# Altium integrated library Microchip Microcontroller 8-Bit PIC18.IntLib: 436 symbols (part 9 of 20)
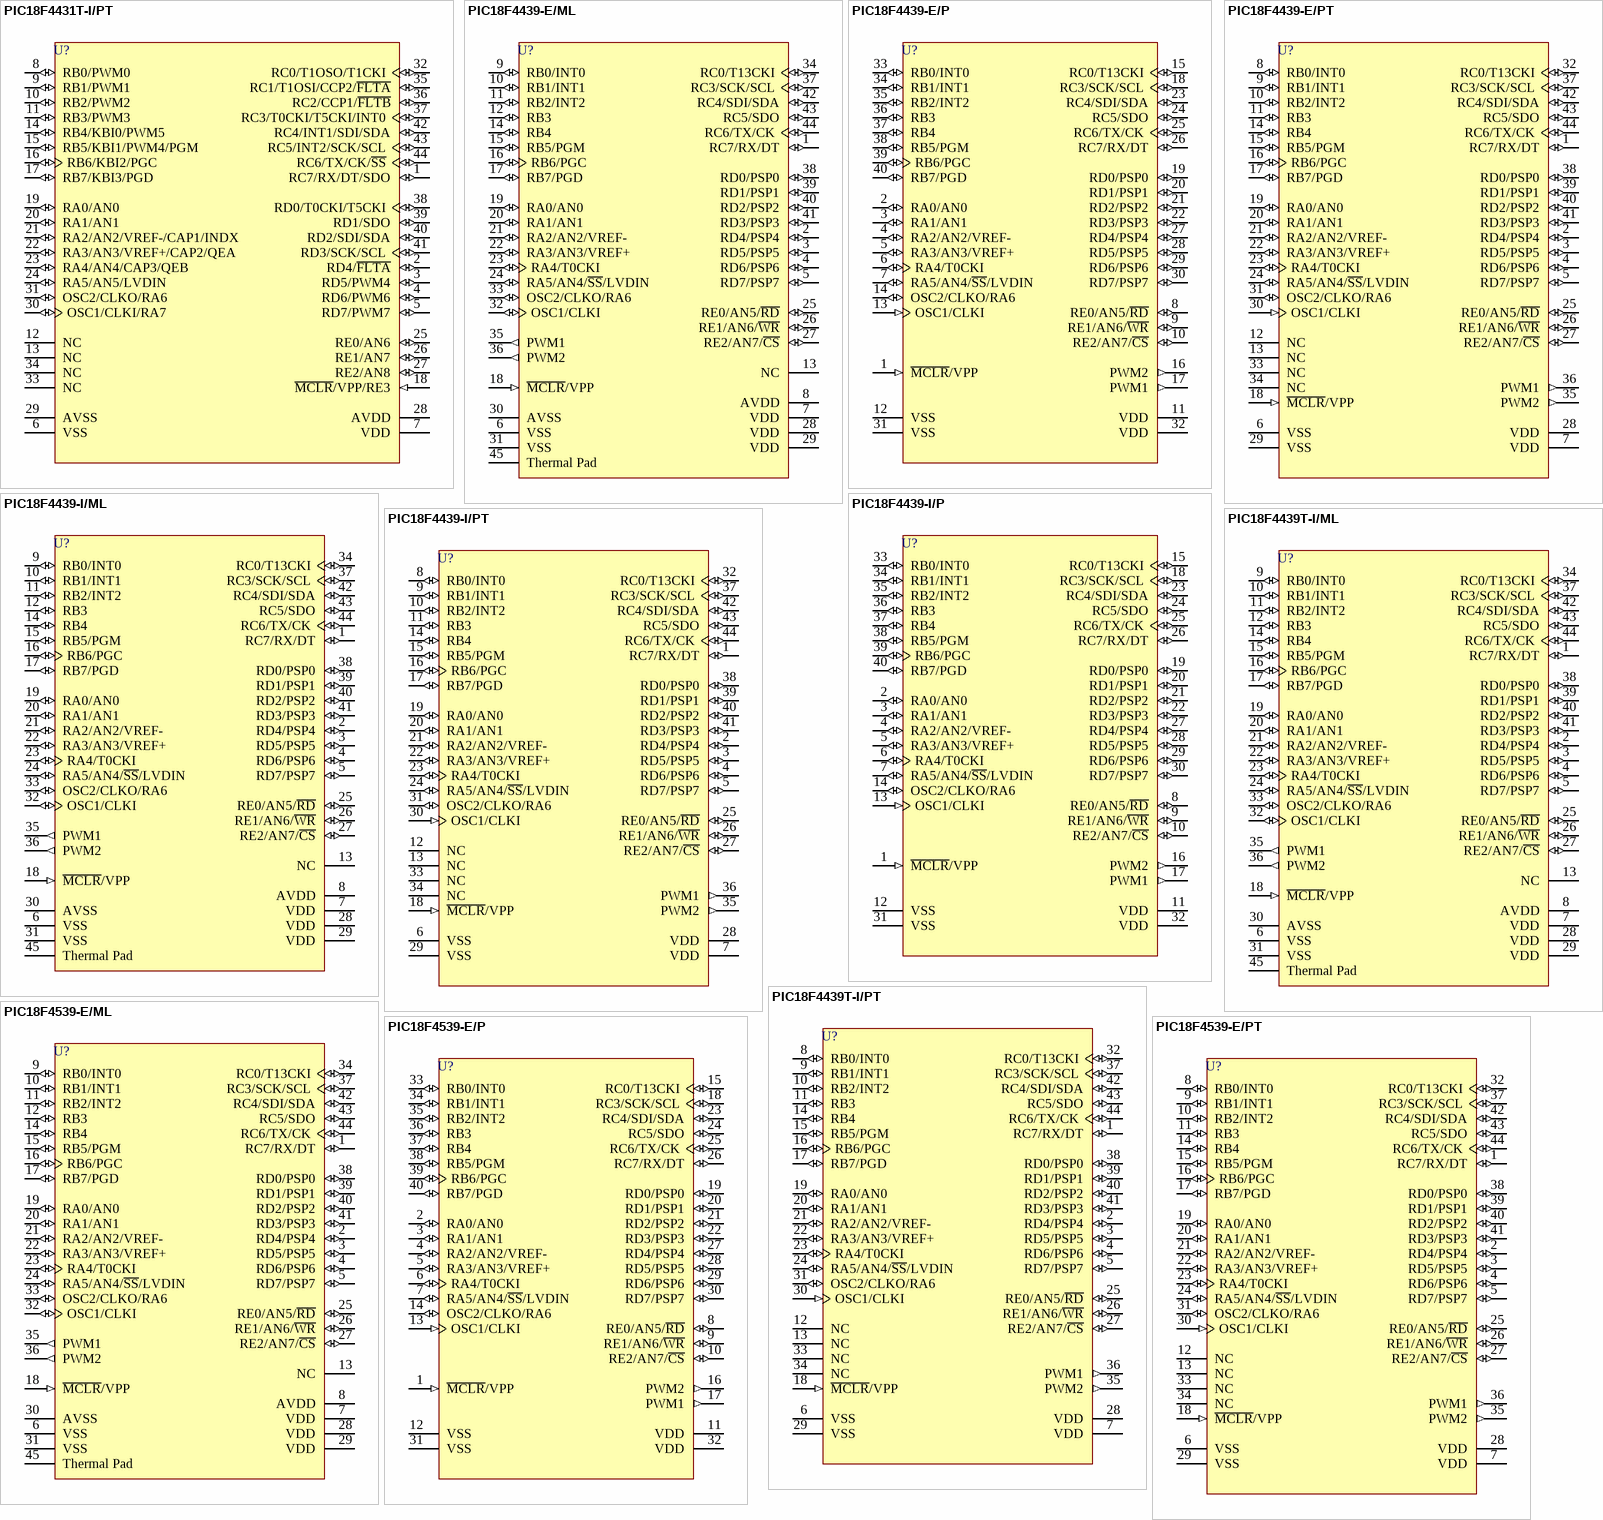
[diagram p62: symbols PIC18F4431T-I/PT to PIC18F4539-E/PT]

## PIC18F4431T-I/PT
designator U?
Enhanced FLASH Microcontroller with nanoWatt Technology, High Performance PWM and A/D, 16K FLASH, 44-Pin TQFP, Standard Volt Range, Industrial Temperature, Tape and Reel; Note: Low Voltage programming must be enabled (Pin#15).; Note: RC3 is the alternate pin for T0CKI/T5CKI (pin#37); RC4 is the alternate pin for SDI/SDA (pin#42); RC5 is the alternate pin for SCK/SCL (pin#43).; Note: RD4 is the alternate pin for F\L\T\A\ (pin#2).; Note: RD5 is the alternate pin for PWM4 (pin#3).; Published: 11-Oct-2004; LatestRevisionDate: 13-Apr-2006; LatestRevisionNote: IPC-7351 Footprint Added.; DatasheetVersion: DS39616B_2003; PackageVersion: 2003; PackageReference: TQFP-44; Publisher: Altium Limited; PackageDescription: 44-Pin Thin Quad Flat Pack 0.8 mm Pitch, 1.0/0.1 mm Lead Form; Code_JEDEC: MS-026; ComponentLink1Description: Manufacturer Link; ComponentLink1URL: http://www.microchip.com; ComponentLink2Description: Datasheet; ComponentLink2URL: http://ww1.microchip.com/downloads/en/DeviceDoc/39616b.pdf; ComponentLink3Description: Packaging Specification; ComponentLink3URL: http://ww1.microchip.com/downloads/en/PackagingSpec/00049AD.pdf
footprint TQFP-44_N (Thin QFP, 44-Leads, Body 10x10mm, Pitch 0.8mm, IPC Medium Density)
footprint TQFP-44_L (Thin QFP, 44-Leads, Body 10x10mm, Pitch 0.8mm, IPC High Density)
footprint TQFP-44_M (Thin QFP, 44-Leads, Body 10x10mm, Pitch 0.8mm, IPC Low Density)
3D model PIC18F4431-TQFP-44 (44-Pin Thin Quad Flat Pack 0.8 mm Pitch, 1.0/0.1 mm Lead Form)
pins: 1 RC7/RX/DT/SDO (io), 2 RD4/~{FLTA} (io), 3 RD5/PWM4 (io), 4 RD6/PWM6 (io), 5 RD7/PWM7 (io), 6 VSS (power), 7 VDD (power), 8 RB0/PWM0 (io), 9 RB1/PWM1 (io), 10 RB2/PWM2 (io), 11 RB3/PWM3 (io), 12 NC, 13 NC, 14 RB4/KBI0/PWM5 (io), 15 RB5/KBI1/PWM4/PGM (io), 16 RB6/KBI2/PGC (io), 17 RB7/KBI3/PGD (io), 18 ~{MCLR}/VPP/RE3 (in), 19 RA0/AN0 (io), 20 RA1/AN1 (io), 21 RA2/AN2/VREF-/CAP1/INDX (io), 22 RA3/AN3/VREF+/CAP2/QEA (io), 23 RA4/AN4/CAP3/QEB (io), 24 RA5/AN5/LVDIN (io), 25 RE0/AN6 (io), 26 RE1/AN7 (io), 27 RE2/AN8 (io), 28 AVDD (power), 29 AVSS (power), 30 OSC1/CLKI/RA7 (io), 31 OSC2/CLKO/RA6 (io), 32 RC0/T1OSO/T1CKI (io), 33 NC, 34 NC, 35 RC1/T1OSI/CCP2/~{FLTA} (io), 36 RC2/CCP1/~{FLTB} (io), 37 RC3/T0CKI/T5CKI/INT0 (io), 38 RD0/T0CKI/T5CKI (io), 39 RD1/SDO (io), 40 RD2/SDI/SDA (io), 41 RD3/SCK/SCL (io), 42 RC4/INT1/SDI/SDA (io), 43 RC5/INT2/SCK/SCL (io), 44 RC6/TX/CK/~{SS} (io)

## PIC18F4439-E/ML
designator U?
Enhanced FLASH Microcontroller with Single Phase Induction Motor Control Kernel, 12K FLASH, 44-Pin QFN, Standard Volt Range, Extended Temperature; Published: 11-Oct-2004; LatestRevisionDate: 13-Apr-2006; LatestRevisionNote: IPC-7351 Footprint Added.; DatasheetVersion: DS30485A_2002; PackageVersion: 2003; PackageReference: QFN-44; Publisher: Altium Limited; PackageDescription: 44-Pin Plastic Quad Flat No-Lead 0.65 mm Pitch; Code_JEDEC: MO-220; Code_IPC: QFN65P800X800-44V2; ComponentLink1Description: Manufacturer Link; ComponentLink1URL: http://www.microchip.com; ComponentLink2Description: Datasheet; ComponentLink2URL: http://ww1.microchip.com/downloads/en/DeviceDoc/30485a.pdf; ComponentLink3Description: Packaging Specification; ComponentLink3URL: http://ww1.microchip.com/downloads/en/PackagingSpec/00049AD.pdf
footprint QFN-44_N (QFN, 44-Leads, Body 8x8 mm, Pitch 0.65mm, IPC Medium Density)
footprint QFN-44_L (QFN, 44-Leads, Body 8x8 mm, Pitch 0.65mm, IPC High Density)
footprint QFN-44_M (QFN, 44-Leads, Body 8x8 mm, Pitch 0.65mm, IPC Low Density)
pins: 1 RC7/RX/DT (io), 2 RD4/PSP4 (io), 3 RD5/PSP5 (io), 4 RD6/PSP6 (io), 5 RD7/PSP7 (io), 6 VSS (power), 7 VDD (power), 8 AVDD (power), 9 RB0/INT0 (io), 10 RB1/INT1 (io), 11 RB2/INT2 (io), 12 RB3 (io), 13 NC, 14 RB4 (io), 15 RB5/PGM (io), 16 RB6/PGC (io), 17 RB7/PGD (io), 18 ~{MCLR}/VPP (in), 19 RA0/AN0 (io), 20 RA1/AN1 (io), 21 RA2/AN2/VREF- (io), 22 RA3/AN3/VREF+ (io), 23 RA4/T0CKI (io), 24 RA5/AN4/~{SS}/LVDIN (io), 25 RE0/AN5/~{RD} (io), 26 RE1/AN6/~{WR} (io), 27 RE2/AN7/~{CS} (io), 28 VDD, 29 VDD (power), 30 AVSS (power), 31 VSS (power), 32 OSC1/CLKI (io), 33 OSC2/CLKO/RA6 (io), 34 RC0/T13CKI (io), 35 PWM1 (out), 36 PWM2 (out), 37 RC3/SCK/SCL (io), 38 RD0/PSP0 (io), 39 RD1/PSP1 (io), 40 RD2/PSP2 (io), 41 RD3/PSP3 (io), 42 RC4/SDI/SDA (io), 43 RC5/SDO (io), 44 RC6/TX/CK (io), 45 Thermal Pad (power)

## PIC18F4439-E/P
designator U?
Enhanced FLASH Microcontroller with Single Phase Induction Motor Control Kernel, 12K FLASH, 40-Pin PDIP, Standard Volt Range, Extended Temperature; Published: 11-Oct-2004; LatestRevisionDate: 04-Mar-2005; LatestRevisionNote: Stylized 3D Model Added.; DatasheetVersion: DS30485A_2002; PackageVersion: 2003; PackageReference: PDIP600-40; Publisher: Altium Limited; PackageDescription: DIP, Plastic; 40 Leads; Row Spacing 15.24 mm; Pitch 2.54 mm; Code_JEDEC: MO-011; ComponentLink1Description: Manufacturer Link; ComponentLink1URL: http://www.microchip.com; ComponentLink2Description: Datasheet; ComponentLink2URL: http://ww1.microchip.com/downloads/en/DeviceDoc/30485a.pdf; ComponentLink3Description: Packaging Specification; ComponentLink3URL: http://ww1.microchip.com/downloads/en/PackagingSpec/00049AD.pdf
footprint PDIP600-40 (DIP, Plastic; 40 Leads; Row Spacing 15.24 mm; Pitch 2.54 mm)
3D model PDIP600-40 (DIP, Plastic; 40 Leads; Row Spacing 15.24 mm; Pitch 2.54 mm)
pins: 1 ~{MCLR}/VPP (in), 2 RA0/AN0 (io), 3 RA1/AN1 (io), 4 RA2/AN2/VREF- (io), 5 RA3/AN3/VREF+ (io), 6 RA4/T0CKI (io), 7 RA5/AN4/~{SS}/LVDIN (io), 8 RE0/AN5/~{RD} (io), 9 RE1/AN6/~{WR} (io), 10 RE2/AN7/~{CS} (io), 11 VDD (power), 12 VSS (power), 13 OSC1/CLKI (in), 14 OSC2/CLKO/RA6 (io), 15 RC0/T13CKI (io), 16 PWM2 (out), 17 PWM1 (out), 18 RC3/SCK/SCL (io), 19 RD0/PSP0 (io), 20 RD1/PSP1 (io), 21 RD2/PSP2 (io), 22 RD3/PSP3 (io), 23 RC4/SDI/SDA (io), 24 RC5/SDO (io), 25 RC6/TX/CK (io), 26 RC7/RX/DT (io), 27 RD4/PSP4 (io), 28 RD5/PSP5 (io), 29 RD6/PSP6 (io), 30 RD7/PSP7 (io), 31 VSS (power), 32 VDD (power), 33 RB0/INT0 (io), 34 RB1/INT1 (io), 35 RB2/INT2 (io), 36 RB3 (io), 37 RB4 (io), 38 RB5/PGM (io), 39 RB6/PGC (io), 40 RB7/PGD (io)

## PIC18F4439-E/PT
designator U?
Enhanced FLASH Microcontroller with Single Phase Induction Motor Control Kernel, 12K FLASH, 44-Pin TQFP, Standard Volt Range, Extended Temperature; Published: 11-Oct-2004; LatestRevisionDate: 13-Apr-2006; LatestRevisionNote: IPC-7351 Footprint Added.; DatasheetVersion: DS30485A_2002; PackageVersion: 2003; PackageReference: TQFP-44; Publisher: Altium Limited; PackageDescription: 44-Pin Thin Quad Flat Pack 0.8 mm Pitch, 1.0/0.1 mm Lead Form; Code_JEDEC: MS-026; ComponentLink1Description: Manufacturer Link; ComponentLink1URL: http://www.microchip.com; ComponentLink2Description: Datasheet; ComponentLink2URL: http://ww1.microchip.com/downloads/en/DeviceDoc/30485a.pdf; ComponentLink3Description: Packaging Specification; ComponentLink3URL: http://ww1.microchip.com/downloads/en/PackagingSpec/00049AD.pdf
footprint TQFP-44_N (Thin QFP, 44-Leads, Body 10x10mm, Pitch 0.8mm, IPC Medium Density)
footprint TQFP-44_L (Thin QFP, 44-Leads, Body 10x10mm, Pitch 0.8mm, IPC High Density)
footprint TQFP-44_M (Thin QFP, 44-Leads, Body 10x10mm, Pitch 0.8mm, IPC Low Density)
3D model PIC18F4439-TQFP-44 (44-Pin Thin Quad Flat Pack 0.8 mm Pitch, 1.0/0.1 mm Lead Form)
pins: 1 RC7/RX/DT (io), 2 RD4/PSP4 (io), 3 RD5/PSP5 (io), 4 RD6/PSP6 (io), 5 RD7/PSP7 (io), 6 VSS (power), 7 VDD (power), 8 RB0/INT0 (io), 9 RB1/INT1 (io), 10 RB2/INT2 (io), 11 RB3 (io), 12 NC, 13 NC, 14 RB4 (io), 15 RB5/PGM (io), 16 RB6/PGC (io), 17 RB7/PGD (io), 18 ~{MCLR}/VPP (in), 19 RA0/AN0 (io), 20 RA1/AN1 (io), 21 RA2/AN2/VREF- (io), 22 RA3/AN3/VREF+ (io), 23 RA4/T0CKI (io), 24 RA5/AN4/~{SS}/LVDIN (io), 25 RE0/AN5/~{RD} (io), 26 RE1/AN6/~{WR} (io), 27 RE2/AN7/~{CS} (io), 28 VDD (power), 29 VSS (power), 30 OSC1/CLKI (in), 31 OSC2/CLKO/RA6 (io), 32 RC0/T13CKI (io), 33 NC, 34 NC, 35 PWM2 (out), 36 PWM1 (out), 37 RC3/SCK/SCL (io), 38 RD0/PSP0 (io), 39 RD1/PSP1 (io), 40 RD2/PSP2 (io), 41 RD3/PSP3 (io), 42 RC4/SDI/SDA (io), 43 RC5/SDO (io), 44 RC6/TX/CK (io)

## PIC18F4439-I/ML
designator U?
Enhanced FLASH Microcontroller with Single Phase Induction Motor Control Kernel, 12K FLASH, 44-Pin QFN, Standard Volt Range, Industrial Temperature; Published: 11-Oct-2004; LatestRevisionDate: 13-Apr-2006; LatestRevisionNote: IPC-7351 Footprint Added.; DatasheetVersion: DS30485A_2002; PackageVersion: 2003; PackageReference: QFN-44; Publisher: Altium Limited; PackageDescription: 44-Pin Plastic Quad Flat No-Lead 0.65 mm Pitch; Code_JEDEC: MO-220; Code_IPC: QFN65P800X800-44V2; ComponentLink1Description: Manufacturer Link; ComponentLink1URL: http://www.microchip.com; ComponentLink2Description: Datasheet; ComponentLink2URL: http://ww1.microchip.com/downloads/en/DeviceDoc/30485a.pdf; ComponentLink3Description: Packaging Specification; ComponentLink3URL: http://ww1.microchip.com/downloads/en/PackagingSpec/00049AD.pdf
footprint QFN-44_N (QFN, 44-Leads, Body 8x8 mm, Pitch 0.65mm, IPC Medium Density)
footprint QFN-44_L (QFN, 44-Leads, Body 8x8 mm, Pitch 0.65mm, IPC High Density)
footprint QFN-44_M (QFN, 44-Leads, Body 8x8 mm, Pitch 0.65mm, IPC Low Density)
pins: 1 RC7/RX/DT (io), 2 RD4/PSP4 (io), 3 RD5/PSP5 (io), 4 RD6/PSP6 (io), 5 RD7/PSP7 (io), 6 VSS (power), 7 VDD (power), 8 AVDD (power), 9 RB0/INT0 (io), 10 RB1/INT1 (io), 11 RB2/INT2 (io), 12 RB3 (io), 13 NC, 14 RB4 (io), 15 RB5/PGM (io), 16 RB6/PGC (io), 17 RB7/PGD (io), 18 ~{MCLR}/VPP (in), 19 RA0/AN0 (io), 20 RA1/AN1 (io), 21 RA2/AN2/VREF- (io), 22 RA3/AN3/VREF+ (io), 23 RA4/T0CKI (io), 24 RA5/AN4/~{SS}/LVDIN (io), 25 RE0/AN5/~{RD} (io), 26 RE1/AN6/~{WR} (io), 27 RE2/AN7/~{CS} (io), 28 VDD, 29 VDD (power), 30 AVSS (power), 31 VSS (power), 32 OSC1/CLKI (io), 33 OSC2/CLKO/RA6 (io), 34 RC0/T13CKI (io), 35 PWM1 (out), 36 PWM2 (out), 37 RC3/SCK/SCL (io), 38 RD0/PSP0 (io), 39 RD1/PSP1 (io), 40 RD2/PSP2 (io), 41 RD3/PSP3 (io), 42 RC4/SDI/SDA (io), 43 RC5/SDO (io), 44 RC6/TX/CK (io), 45 Thermal Pad (power)

## PIC18F4439-I/P
designator U?
Enhanced FLASH Microcontroller with Single Phase Induction Motor Control Kernel, 12K FLASH, 40-Pin PDIP, Standard Volt Range, Industrial Temperature; Published: 11-Oct-2004; LatestRevisionDate: 04-Mar-2005; LatestRevisionNote: Stylized 3D Model Added.; DatasheetVersion: DS30485A_2002; PackageVersion: 2003; PackageReference: PDIP600-40; Publisher: Altium Limited; PackageDescription: DIP, Plastic; 40 Leads; Row Spacing 15.24 mm; Pitch 2.54 mm; Code_JEDEC: MO-011; ComponentLink1Description: Manufacturer Link; ComponentLink1URL: http://www.microchip.com; ComponentLink2Description: Datasheet; ComponentLink2URL: http://ww1.microchip.com/downloads/en/DeviceDoc/30485a.pdf; ComponentLink3Description: Packaging Specification; ComponentLink3URL: http://ww1.microchip.com/downloads/en/PackagingSpec/00049AD.pdf
footprint PDIP600-40 (DIP, Plastic; 40 Leads; Row Spacing 15.24 mm; Pitch 2.54 mm)
3D model PDIP600-40 (DIP, Plastic; 40 Leads; Row Spacing 15.24 mm; Pitch 2.54 mm)
pins: 1 ~{MCLR}/VPP (in), 2 RA0/AN0 (io), 3 RA1/AN1 (io), 4 RA2/AN2/VREF- (io), 5 RA3/AN3/VREF+ (io), 6 RA4/T0CKI (io), 7 RA5/AN4/~{SS}/LVDIN (io), 8 RE0/AN5/~{RD} (io), 9 RE1/AN6/~{WR} (io), 10 RE2/AN7/~{CS} (io), 11 VDD (power), 12 VSS (power), 13 OSC1/CLKI (in), 14 OSC2/CLKO/RA6 (io), 15 RC0/T13CKI (io), 16 PWM2 (out), 17 PWM1 (out), 18 RC3/SCK/SCL (io), 19 RD0/PSP0 (io), 20 RD1/PSP1 (io), 21 RD2/PSP2 (io), 22 RD3/PSP3 (io), 23 RC4/SDI/SDA (io), 24 RC5/SDO (io), 25 RC6/TX/CK (io), 26 RC7/RX/DT (io), 27 RD4/PSP4 (io), 28 RD5/PSP5 (io), 29 RD6/PSP6 (io), 30 RD7/PSP7 (io), 31 VSS (power), 32 VDD (power), 33 RB0/INT0 (io), 34 RB1/INT1 (io), 35 RB2/INT2 (io), 36 RB3 (io), 37 RB4 (io), 38 RB5/PGM (io), 39 RB6/PGC (io), 40 RB7/PGD (io)

## PIC18F4439-I/PT
designator U?
Enhanced FLASH Microcontroller with Single Phase Induction Motor Control Kernel, 12K FLASH, 44-Pin TQFP, Standard Volt Range, Industrial Temperature; Published: 11-Oct-2004; LatestRevisionDate: 13-Apr-2006; LatestRevisionNote: IPC-7351 Footprint Added.; DatasheetVersion: DS30485A_2002; PackageVersion: 2003; PackageReference: TQFP-44; Publisher: Altium Limited; PackageDescription: 44-Pin Thin Quad Flat Pack 0.8 mm Pitch, 1.0/0.1 mm Lead Form; Code_JEDEC: MS-026; ComponentLink1Description: Manufacturer Link; ComponentLink1URL: http://www.microchip.com; ComponentLink2Description: Datasheet; ComponentLink2URL: http://ww1.microchip.com/downloads/en/DeviceDoc/30485a.pdf; ComponentLink3Description: Packaging Specification; ComponentLink3URL: http://ww1.microchip.com/downloads/en/PackagingSpec/00049AD.pdf
footprint TQFP-44_N (Thin QFP, 44-Leads, Body 10x10mm, Pitch 0.8mm, IPC Medium Density)
footprint TQFP-44_L (Thin QFP, 44-Leads, Body 10x10mm, Pitch 0.8mm, IPC High Density)
footprint TQFP-44_M (Thin QFP, 44-Leads, Body 10x10mm, Pitch 0.8mm, IPC Low Density)
3D model PIC18F4439-TQFP-44 (44-Pin Thin Quad Flat Pack 0.8 mm Pitch, 1.0/0.1 mm Lead Form)
pins: 1 RC7/RX/DT (io), 2 RD4/PSP4 (io), 3 RD5/PSP5 (io), 4 RD6/PSP6 (io), 5 RD7/PSP7 (io), 6 VSS (power), 7 VDD (power), 8 RB0/INT0 (io), 9 RB1/INT1 (io), 10 RB2/INT2 (io), 11 RB3 (io), 12 NC, 13 NC, 14 RB4 (io), 15 RB5/PGM (io), 16 RB6/PGC (io), 17 RB7/PGD (io), 18 ~{MCLR}/VPP (in), 19 RA0/AN0 (io), 20 RA1/AN1 (io), 21 RA2/AN2/VREF- (io), 22 RA3/AN3/VREF+ (io), 23 RA4/T0CKI (io), 24 RA5/AN4/~{SS}/LVDIN (io), 25 RE0/AN5/~{RD} (io), 26 RE1/AN6/~{WR} (io), 27 RE2/AN7/~{CS} (io), 28 VDD (power), 29 VSS (power), 30 OSC1/CLKI (in), 31 OSC2/CLKO/RA6 (io), 32 RC0/T13CKI (io), 33 NC, 34 NC, 35 PWM2 (out), 36 PWM1 (out), 37 RC3/SCK/SCL (io), 38 RD0/PSP0 (io), 39 RD1/PSP1 (io), 40 RD2/PSP2 (io), 41 RD3/PSP3 (io), 42 RC4/SDI/SDA (io), 43 RC5/SDO (io), 44 RC6/TX/CK (io)

## PIC18F4439T-I/ML
designator U?
Enhanced FLASH Microcontroller with Single Phase Induction Motor Control Kernel, 12K FLASH, 44-Pin QFN, Standard Volt Range, Industrial Temperature, Tape and Reel; Published: 11-Oct-2004; LatestRevisionDate: 13-Apr-2006; LatestRevisionNote: IPC-7351 Footprint Added.; DatasheetVersion: DS30485A_2002; PackageVersion: 2003; PackageReference: QFN-44; Publisher: Altium Limited; PackageDescription: 44-Pin Plastic Quad Flat No-Lead 0.65 mm Pitch; Code_JEDEC: MO-220; Code_IPC: QFN65P800X800-44V2; ComponentLink1Description: Manufacturer Link; ComponentLink1URL: http://www.microchip.com; ComponentLink2Description: Datasheet; ComponentLink2URL: http://ww1.microchip.com/downloads/en/DeviceDoc/30485a.pdf; ComponentLink3Description: Packaging Specification; ComponentLink3URL: http://ww1.microchip.com/downloads/en/PackagingSpec/00049AD.pdf
footprint QFN-44_N (QFN, 44-Leads, Body 8x8 mm, Pitch 0.65mm, IPC Medium Density)
footprint QFN-44_L (QFN, 44-Leads, Body 8x8 mm, Pitch 0.65mm, IPC High Density)
footprint QFN-44_M (QFN, 44-Leads, Body 8x8 mm, Pitch 0.65mm, IPC Low Density)
pins: 1 RC7/RX/DT (io), 2 RD4/PSP4 (io), 3 RD5/PSP5 (io), 4 RD6/PSP6 (io), 5 RD7/PSP7 (io), 6 VSS (power), 7 VDD (power), 8 AVDD (power), 9 RB0/INT0 (io), 10 RB1/INT1 (io), 11 RB2/INT2 (io), 12 RB3 (io), 13 NC, 14 RB4 (io), 15 RB5/PGM (io), 16 RB6/PGC (io), 17 RB7/PGD (io), 18 ~{MCLR}/VPP (in), 19 RA0/AN0 (io), 20 RA1/AN1 (io), 21 RA2/AN2/VREF- (io), 22 RA3/AN3/VREF+ (io), 23 RA4/T0CKI (io), 24 RA5/AN4/~{SS}/LVDIN (io), 25 RE0/AN5/~{RD} (io), 26 RE1/AN6/~{WR} (io), 27 RE2/AN7/~{CS} (io), 28 VDD, 29 VDD (power), 30 AVSS (power), 31 VSS (power), 32 OSC1/CLKI (io), 33 OSC2/CLKO/RA6 (io), 34 RC0/T13CKI (io), 35 PWM1 (out), 36 PWM2 (out), 37 RC3/SCK/SCL (io), 38 RD0/PSP0 (io), 39 RD1/PSP1 (io), 40 RD2/PSP2 (io), 41 RD3/PSP3 (io), 42 RC4/SDI/SDA (io), 43 RC5/SDO (io), 44 RC6/TX/CK (io), 45 Thermal Pad (power)

## PIC18F4439T-I/PT
designator U?
Enhanced FLASH Microcontroller with Single Phase Induction Motor Control Kernel, 12K FLASH, 44-Pin TQFP, Standard Volt Range, Industrial Temperature, Tape and Reel; Published: 11-Oct-2004; LatestRevisionDate: 13-Apr-2006; LatestRevisionNote: IPC-7351 Footprint Added.; DatasheetVersion: DS30485A_2002; PackageVersion: 2003; PackageReference: TQFP-44; Publisher: Altium Limited; PackageDescription: 44-Pin Thin Quad Flat Pack 0.8 mm Pitch, 1.0/0.1 mm Lead Form; Code_JEDEC: MS-026; ComponentLink1Description: Manufacturer Link; ComponentLink1URL: http://www.microchip.com; ComponentLink2Description: Datasheet; ComponentLink2URL: http://ww1.microchip.com/downloads/en/DeviceDoc/30485a.pdf; ComponentLink3Description: Packaging Specification; ComponentLink3URL: http://ww1.microchip.com/downloads/en/PackagingSpec/00049AD.pdf
footprint TQFP-44_N (Thin QFP, 44-Leads, Body 10x10mm, Pitch 0.8mm, IPC Medium Density)
footprint TQFP-44_L (Thin QFP, 44-Leads, Body 10x10mm, Pitch 0.8mm, IPC High Density)
footprint TQFP-44_M (Thin QFP, 44-Leads, Body 10x10mm, Pitch 0.8mm, IPC Low Density)
3D model PIC18F4439-TQFP-44 (44-Pin Thin Quad Flat Pack 0.8 mm Pitch, 1.0/0.1 mm Lead Form)
pins: 1 RC7/RX/DT (io), 2 RD4/PSP4 (io), 3 RD5/PSP5 (io), 4 RD6/PSP6 (io), 5 RD7/PSP7 (io), 6 VSS (power), 7 VDD (power), 8 RB0/INT0 (io), 9 RB1/INT1 (io), 10 RB2/INT2 (io), 11 RB3 (io), 12 NC, 13 NC, 14 RB4 (io), 15 RB5/PGM (io), 16 RB6/PGC (io), 17 RB7/PGD (io), 18 ~{MCLR}/VPP (in), 19 RA0/AN0 (io), 20 RA1/AN1 (io), 21 RA2/AN2/VREF- (io), 22 RA3/AN3/VREF+ (io), 23 RA4/T0CKI (io), 24 RA5/AN4/~{SS}/LVDIN (io), 25 RE0/AN5/~{RD} (io), 26 RE1/AN6/~{WR} (io), 27 RE2/AN7/~{CS} (io), 28 VDD (power), 29 VSS (power), 30 OSC1/CLKI (in), 31 OSC2/CLKO/RA6 (io), 32 RC0/T13CKI (io), 33 NC, 34 NC, 35 PWM2 (out), 36 PWM1 (out), 37 RC3/SCK/SCL (io), 38 RD0/PSP0 (io), 39 RD1/PSP1 (io), 40 RD2/PSP2 (io), 41 RD3/PSP3 (io), 42 RC4/SDI/SDA (io), 43 RC5/SDO (io), 44 RC6/TX/CK (io)

## PIC18F4539-E/ML
designator U?
Enhanced FLASH Microcontroller with Single Phase Induction Motor Control Kernel, 24K FLASH, 44-Pin QFN, Standard Volt Range, Extended Temperature; Published: 11-Oct-2004; LatestRevisionDate: 13-Apr-2006; LatestRevisionNote: IPC-7351 Footprint Added.; DatasheetVersion: DS30485A_2002; PackageVersion: 2003; PackageReference: QFN-44; Publisher: Altium Limited; PackageDescription: 44-Pin Plastic Quad Flat No-Lead 0.65 mm Pitch; Code_JEDEC: MO-220; Code_IPC: QFN65P800X800-44V2; ComponentLink1Description: Manufacturer Link; ComponentLink1URL: http://www.microchip.com; ComponentLink2Description: Datasheet; ComponentLink2URL: http://ww1.microchip.com/downloads/en/DeviceDoc/30485a.pdf; ComponentLink3Description: Packaging Specification; ComponentLink3URL: http://ww1.microchip.com/downloads/en/PackagingSpec/00049AD.pdf
footprint QFN-44_N (QFN, 44-Leads, Body 8x8 mm, Pitch 0.65mm, IPC Medium Density)
footprint QFN-44_L (QFN, 44-Leads, Body 8x8 mm, Pitch 0.65mm, IPC High Density)
footprint QFN-44_M (QFN, 44-Leads, Body 8x8 mm, Pitch 0.65mm, IPC Low Density)
pins: 1 RC7/RX/DT (io), 2 RD4/PSP4 (io), 3 RD5/PSP5 (io), 4 RD6/PSP6 (io), 5 RD7/PSP7 (io), 6 VSS (power), 7 VDD (power), 8 AVDD (power), 9 RB0/INT0 (io), 10 RB1/INT1 (io), 11 RB2/INT2 (io), 12 RB3 (io), 13 NC, 14 RB4 (io), 15 RB5/PGM (io), 16 RB6/PGC (io), 17 RB7/PGD (io), 18 ~{MCLR}/VPP (in), 19 RA0/AN0 (io), 20 RA1/AN1 (io), 21 RA2/AN2/VREF- (io), 22 RA3/AN3/VREF+ (io), 23 RA4/T0CKI (io), 24 RA5/AN4/~{SS}/LVDIN (io), 25 RE0/AN5/~{RD} (io), 26 RE1/AN6/~{WR} (io), 27 RE2/AN7/~{CS} (io), 28 VDD, 29 VDD (power), 30 AVSS (power), 31 VSS (power), 32 OSC1/CLKI (io), 33 OSC2/CLKO/RA6 (io), 34 RC0/T13CKI (io), 35 PWM1 (out), 36 PWM2 (out), 37 RC3/SCK/SCL (io), 38 RD0/PSP0 (io), 39 RD1/PSP1 (io), 40 RD2/PSP2 (io), 41 RD3/PSP3 (io), 42 RC4/SDI/SDA (io), 43 RC5/SDO (io), 44 RC6/TX/CK (io), 45 Thermal Pad (power)

## PIC18F4539-E/P
designator U?
Enhanced FLASH Microcontroller with Single Phase Induction Motor Control Kernel, 24K FLASH, 40-Pin PDIP, Standard Volt Range, Extended Temperature; Published: 11-Oct-2004; LatestRevisionDate: 04-Mar-2005; LatestRevisionNote: Stylized 3D Model Added.; DatasheetVersion: DS30485A_2002; PackageVersion: 2003; PackageReference: PDIP600-40; Publisher: Altium Limited; PackageDescription: DIP, Plastic; 40 Leads; Row Spacing 15.24 mm; Pitch 2.54 mm; Code_JEDEC: MO-011; ComponentLink1Description: Manufacturer Link; ComponentLink1URL: http://www.microchip.com; ComponentLink2Description: Datasheet; ComponentLink2URL: http://ww1.microchip.com/downloads/en/DeviceDoc/30485a.pdf; ComponentLink3Description: Packaging Specification; ComponentLink3URL: http://ww1.microchip.com/downloads/en/PackagingSpec/00049AD.pdf
footprint PDIP600-40 (DIP, Plastic; 40 Leads; Row Spacing 15.24 mm; Pitch 2.54 mm)
3D model PDIP600-40 (DIP, Plastic; 40 Leads; Row Spacing 15.24 mm; Pitch 2.54 mm)
pins: 1 ~{MCLR}/VPP (in), 2 RA0/AN0 (io), 3 RA1/AN1 (io), 4 RA2/AN2/VREF- (io), 5 RA3/AN3/VREF+ (io), 6 RA4/T0CKI (io), 7 RA5/AN4/~{SS}/LVDIN (io), 8 RE0/AN5/~{RD} (io), 9 RE1/AN6/~{WR} (io), 10 RE2/AN7/~{CS} (io), 11 VDD (power), 12 VSS (power), 13 OSC1/CLKI (in), 14 OSC2/CLKO/RA6 (io), 15 RC0/T13CKI (io), 16 PWM2 (out), 17 PWM1 (out), 18 RC3/SCK/SCL (io), 19 RD0/PSP0 (io), 20 RD1/PSP1 (io), 21 RD2/PSP2 (io), 22 RD3/PSP3 (io), 23 RC4/SDI/SDA (io), 24 RC5/SDO (io), 25 RC6/TX/CK (io), 26 RC7/RX/DT (io), 27 RD4/PSP4 (io), 28 RD5/PSP5 (io), 29 RD6/PSP6 (io), 30 RD7/PSP7 (io), 31 VSS (power), 32 VDD (power), 33 RB0/INT0 (io), 34 RB1/INT1 (io), 35 RB2/INT2 (io), 36 RB3 (io), 37 RB4 (io), 38 RB5/PGM (io), 39 RB6/PGC (io), 40 RB7/PGD (io)

## PIC18F4539-E/PT
designator U?
Enhanced FLASH Microcontroller with Single Phase Induction Motor Control Kernel, 24K FLASH, 44-Pin TQFP, Standard Volt Range, Extended Temperature; Published: 11-Oct-2004; LatestRevisionDate: 13-Apr-2006; LatestRevisionNote: IPC-7351 Footprint Added.; DatasheetVersion: DS30485A_2002; PackageVersion: 2003; PackageReference: TQFP-44; Publisher: Altium Limited; PackageDescription: 44-Pin Thin Quad Flat Pack 0.8 mm Pitch, 1.0/0.1 mm Lead Form; Code_JEDEC: MS-026; ComponentLink1Description: Manufacturer Link; ComponentLink1URL: http://www.microchip.com; ComponentLink2Description: Datasheet; ComponentLink2URL: http://ww1.microchip.com/downloads/en/DeviceDoc/30485a.pdf; ComponentLink3Description: Packaging Specification; ComponentLink3URL: http://ww1.microchip.com/downloads/en/PackagingSpec/00049AD.pdf
footprint TQFP-44_N (Thin QFP, 44-Leads, Body 10x10mm, Pitch 0.8mm, IPC Medium Density)
footprint TQFP-44_L (Thin QFP, 44-Leads, Body 10x10mm, Pitch 0.8mm, IPC High Density)
footprint TQFP-44_M (Thin QFP, 44-Leads, Body 10x10mm, Pitch 0.8mm, IPC Low Density)
3D model PIC18F4539-TQFP-44 (44-Pin Thin Quad Flat Pack 0.8 mm Pitch, 1.0/0.1 mm Lead Form)
pins: 1 RC7/RX/DT (io), 2 RD4/PSP4 (io), 3 RD5/PSP5 (io), 4 RD6/PSP6 (io), 5 RD7/PSP7 (io), 6 VSS (power), 7 VDD (power), 8 RB0/INT0 (io), 9 RB1/INT1 (io), 10 RB2/INT2 (io), 11 RB3 (io), 12 NC, 13 NC, 14 RB4 (io), 15 RB5/PGM (io), 16 RB6/PGC (io), 17 RB7/PGD (io), 18 ~{MCLR}/VPP (in), 19 RA0/AN0 (io), 20 RA1/AN1 (io), 21 RA2/AN2/VREF- (io), 22 RA3/AN3/VREF+ (io), 23 RA4/T0CKI (io), 24 RA5/AN4/~{SS}/LVDIN (io), 25 RE0/AN5/~{RD} (io), 26 RE1/AN6/~{WR} (io), 27 RE2/AN7/~{CS} (io), 28 VDD (power), 29 VSS (power), 30 OSC1/CLKI (in), 31 OSC2/CLKO/RA6 (io), 32 RC0/T13CKI (io), 33 NC, 34 NC, 35 PWM2 (out), 36 PWM1 (out), 37 RC3/SCK/SCL (io), 38 RD0/PSP0 (io), 39 RD1/PSP1 (io), 40 RD2/PSP2 (io), 41 RD3/PSP3 (io), 42 RC4/SDI/SDA (io), 43 RC5/SDO (io), 44 RC6/TX/CK (io)

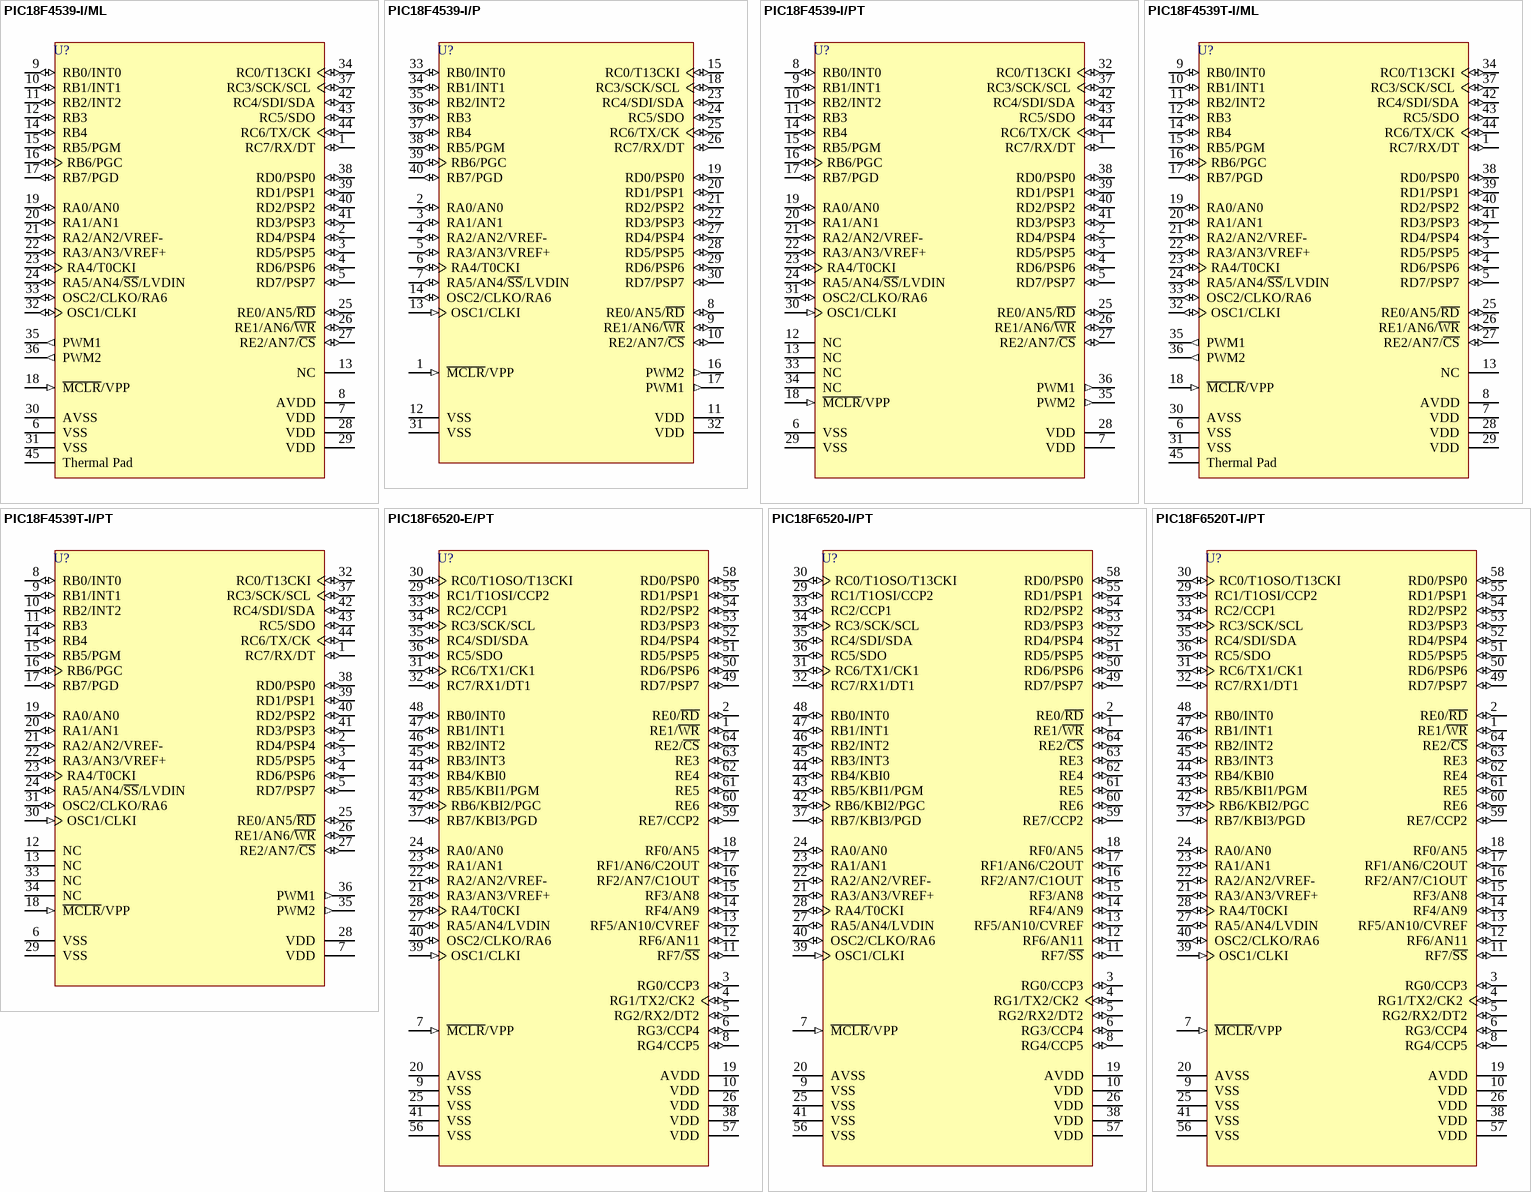
[diagram p20: symbols PIC18F4539-I/ML to PIC18F6520T-I/PT]

## PIC18F4539-I/ML
designator U?
Enhanced FLASH Microcontroller with Single Phase Induction Motor Control Kernel, 24K FLASH, 44-Pin QFN, Standard Volt Range, Industrial Temperature; Published: 11-Oct-2004; LatestRevisionDate: 13-Apr-2006; LatestRevisionNote: IPC-7351 Footprint Added.; DatasheetVersion: DS30485A_2002; PackageVersion: 2003; PackageReference: QFN-44; Publisher: Altium Limited; PackageDescription: 44-Pin Plastic Quad Flat No-Lead 0.65 mm Pitch; Code_JEDEC: MO-220; Code_IPC: QFN65P800X800-44V2; ComponentLink1Description: Manufacturer Link; ComponentLink1URL: http://www.microchip.com; ComponentLink2Description: Datasheet; ComponentLink2URL: http://ww1.microchip.com/downloads/en/DeviceDoc/30485a.pdf; ComponentLink3Description: Packaging Specification; ComponentLink3URL: http://ww1.microchip.com/downloads/en/PackagingSpec/00049AD.pdf
footprint QFN-44_N (QFN, 44-Leads, Body 8x8 mm, Pitch 0.65mm, IPC Medium Density)
footprint QFN-44_L (QFN, 44-Leads, Body 8x8 mm, Pitch 0.65mm, IPC High Density)
footprint QFN-44_M (QFN, 44-Leads, Body 8x8 mm, Pitch 0.65mm, IPC Low Density)
pins: 1 RC7/RX/DT (io), 2 RD4/PSP4 (io), 3 RD5/PSP5 (io), 4 RD6/PSP6 (io), 5 RD7/PSP7 (io), 6 VSS (power), 7 VDD (power), 8 AVDD (power), 9 RB0/INT0 (io), 10 RB1/INT1 (io), 11 RB2/INT2 (io), 12 RB3 (io), 13 NC, 14 RB4 (io), 15 RB5/PGM (io), 16 RB6/PGC (io), 17 RB7/PGD (io), 18 ~{MCLR}/VPP (in), 19 RA0/AN0 (io), 20 RA1/AN1 (io), 21 RA2/AN2/VREF- (io), 22 RA3/AN3/VREF+ (io), 23 RA4/T0CKI (io), 24 RA5/AN4/~{SS}/LVDIN (io), 25 RE0/AN5/~{RD} (io), 26 RE1/AN6/~{WR} (io), 27 RE2/AN7/~{CS} (io), 28 VDD, 29 VDD (power), 30 AVSS (power), 31 VSS (power), 32 OSC1/CLKI (io), 33 OSC2/CLKO/RA6 (io), 34 RC0/T13CKI (io), 35 PWM1 (out), 36 PWM2 (out), 37 RC3/SCK/SCL (io), 38 RD0/PSP0 (io), 39 RD1/PSP1 (io), 40 RD2/PSP2 (io), 41 RD3/PSP3 (io), 42 RC4/SDI/SDA (io), 43 RC5/SDO (io), 44 RC6/TX/CK (io), 45 Thermal Pad (power)

## PIC18F4539-I/P
designator U?
Enhanced FLASH Microcontroller with Single Phase Induction Motor Control Kernel, 24K FLASH, 40-Pin PDIP, Standard Volt Range, Industrial Temperature; Published: 11-Oct-2004; LatestRevisionDate: 04-Mar-2005; LatestRevisionNote: Stylized 3D Model Added.; DatasheetVersion: DS30485A_2002; PackageVersion: 2003; PackageReference: PDIP600-40; Publisher: Altium Limited; PackageDescription: DIP, Plastic; 40 Leads; Row Spacing 15.24 mm; Pitch 2.54 mm; Code_JEDEC: MO-011; ComponentLink1Description: Manufacturer Link; ComponentLink1URL: http://www.microchip.com; ComponentLink2Description: Datasheet; ComponentLink2URL: http://ww1.microchip.com/downloads/en/DeviceDoc/30485a.pdf; ComponentLink3Description: Packaging Specification; ComponentLink3URL: http://ww1.microchip.com/downloads/en/PackagingSpec/00049AD.pdf
footprint PDIP600-40 (DIP, Plastic; 40 Leads; Row Spacing 15.24 mm; Pitch 2.54 mm)
3D model PDIP600-40 (DIP, Plastic; 40 Leads; Row Spacing 15.24 mm; Pitch 2.54 mm)
pins: 1 ~{MCLR}/VPP (in), 2 RA0/AN0 (io), 3 RA1/AN1 (io), 4 RA2/AN2/VREF- (io), 5 RA3/AN3/VREF+ (io), 6 RA4/T0CKI (io), 7 RA5/AN4/~{SS}/LVDIN (io), 8 RE0/AN5/~{RD} (io), 9 RE1/AN6/~{WR} (io), 10 RE2/AN7/~{CS} (io), 11 VDD (power), 12 VSS (power), 13 OSC1/CLKI (in), 14 OSC2/CLKO/RA6 (io), 15 RC0/T13CKI (io), 16 PWM2 (out), 17 PWM1 (out), 18 RC3/SCK/SCL (io), 19 RD0/PSP0 (io), 20 RD1/PSP1 (io), 21 RD2/PSP2 (io), 22 RD3/PSP3 (io), 23 RC4/SDI/SDA (io), 24 RC5/SDO (io), 25 RC6/TX/CK (io), 26 RC7/RX/DT (io), 27 RD4/PSP4 (io), 28 RD5/PSP5 (io), 29 RD6/PSP6 (io), 30 RD7/PSP7 (io), 31 VSS (power), 32 VDD (power), 33 RB0/INT0 (io), 34 RB1/INT1 (io), 35 RB2/INT2 (io), 36 RB3 (io), 37 RB4 (io), 38 RB5/PGM (io), 39 RB6/PGC (io), 40 RB7/PGD (io)

## PIC18F4539-I/PT
designator U?
Enhanced FLASH Microcontroller with Single Phase Induction Motor Control Kernel, 24K FLASH, 44-Pin TQFP, Standard Volt Range, Industrial Temperature; Published: 11-Oct-2004; LatestRevisionDate: 13-Apr-2006; LatestRevisionNote: IPC-7351 Footprint Added.; DatasheetVersion: DS30485A_2002; PackageVersion: 2003; PackageReference: TQFP-44; Publisher: Altium Limited; PackageDescription: 44-Pin Thin Quad Flat Pack 0.8 mm Pitch, 1.0/0.1 mm Lead Form; Code_JEDEC: MS-026; ComponentLink1Description: Manufacturer Link; ComponentLink1URL: http://www.microchip.com; ComponentLink2Description: Datasheet; ComponentLink2URL: http://ww1.microchip.com/downloads/en/DeviceDoc/30485a.pdf; ComponentLink3Description: Packaging Specification; ComponentLink3URL: http://ww1.microchip.com/downloads/en/PackagingSpec/00049AD.pdf
footprint TQFP-44_N (Thin QFP, 44-Leads, Body 10x10mm, Pitch 0.8mm, IPC Medium Density)
footprint TQFP-44_L (Thin QFP, 44-Leads, Body 10x10mm, Pitch 0.8mm, IPC High Density)
footprint TQFP-44_M (Thin QFP, 44-Leads, Body 10x10mm, Pitch 0.8mm, IPC Low Density)
3D model PIC18F4539-TQFP-44 (44-Pin Thin Quad Flat Pack 0.8 mm Pitch, 1.0/0.1 mm Lead Form)
pins: 1 RC7/RX/DT (io), 2 RD4/PSP4 (io), 3 RD5/PSP5 (io), 4 RD6/PSP6 (io), 5 RD7/PSP7 (io), 6 VSS (power), 7 VDD (power), 8 RB0/INT0 (io), 9 RB1/INT1 (io), 10 RB2/INT2 (io), 11 RB3 (io), 12 NC, 13 NC, 14 RB4 (io), 15 RB5/PGM (io), 16 RB6/PGC (io), 17 RB7/PGD (io), 18 ~{MCLR}/VPP (in), 19 RA0/AN0 (io), 20 RA1/AN1 (io), 21 RA2/AN2/VREF- (io), 22 RA3/AN3/VREF+ (io), 23 RA4/T0CKI (io), 24 RA5/AN4/~{SS}/LVDIN (io), 25 RE0/AN5/~{RD} (io), 26 RE1/AN6/~{WR} (io), 27 RE2/AN7/~{CS} (io), 28 VDD (power), 29 VSS (power), 30 OSC1/CLKI (in), 31 OSC2/CLKO/RA6 (io), 32 RC0/T13CKI (io), 33 NC, 34 NC, 35 PWM2 (out), 36 PWM1 (out), 37 RC3/SCK/SCL (io), 38 RD0/PSP0 (io), 39 RD1/PSP1 (io), 40 RD2/PSP2 (io), 41 RD3/PSP3 (io), 42 RC4/SDI/SDA (io), 43 RC5/SDO (io), 44 RC6/TX/CK (io)

## PIC18F4539T-I/ML
designator U?
Enhanced FLASH Microcontroller with Single Phase Induction Motor Control Kernel, 24K FLASH, 44-Pin QFN, Standard Volt Range, Industrial Temperature, Tape and Reel; Published: 11-Oct-2004; LatestRevisionDate: 13-Apr-2006; LatestRevisionNote: IPC-7351 Footprint Added.; DatasheetVersion: DS30485A_2002; PackageVersion: 2003; PackageReference: QFN-44; Publisher: Altium Limited; PackageDescription: 44-Pin Plastic Quad Flat No-Lead 0.65 mm Pitch; Code_JEDEC: MO-220; Code_IPC: QFN65P800X800-44V2; ComponentLink1Description: Manufacturer Link; ComponentLink1URL: http://www.microchip.com; ComponentLink2Description: Datasheet; ComponentLink2URL: http://ww1.microchip.com/downloads/en/DeviceDoc/30485a.pdf; ComponentLink3Description: Packaging Specification; ComponentLink3URL: http://ww1.microchip.com/downloads/en/PackagingSpec/00049AD.pdf
footprint QFN-44_N (QFN, 44-Leads, Body 8x8 mm, Pitch 0.65mm, IPC Medium Density)
footprint QFN-44_L (QFN, 44-Leads, Body 8x8 mm, Pitch 0.65mm, IPC High Density)
footprint QFN-44_M (QFN, 44-Leads, Body 8x8 mm, Pitch 0.65mm, IPC Low Density)
pins: 1 RC7/RX/DT (io), 2 RD4/PSP4 (io), 3 RD5/PSP5 (io), 4 RD6/PSP6 (io), 5 RD7/PSP7 (io), 6 VSS (power), 7 VDD (power), 8 AVDD (power), 9 RB0/INT0 (io), 10 RB1/INT1 (io), 11 RB2/INT2 (io), 12 RB3 (io), 13 NC, 14 RB4 (io), 15 RB5/PGM (io), 16 RB6/PGC (io), 17 RB7/PGD (io), 18 ~{MCLR}/VPP (in), 19 RA0/AN0 (io), 20 RA1/AN1 (io), 21 RA2/AN2/VREF- (io), 22 RA3/AN3/VREF+ (io), 23 RA4/T0CKI (io), 24 RA5/AN4/~{SS}/LVDIN (io), 25 RE0/AN5/~{RD} (io), 26 RE1/AN6/~{WR} (io), 27 RE2/AN7/~{CS} (io), 28 VDD, 29 VDD (power), 30 AVSS (power), 31 VSS (power), 32 OSC1/CLKI (io), 33 OSC2/CLKO/RA6 (io), 34 RC0/T13CKI (io), 35 PWM1 (out), 36 PWM2 (out), 37 RC3/SCK/SCL (io), 38 RD0/PSP0 (io), 39 RD1/PSP1 (io), 40 RD2/PSP2 (io), 41 RD3/PSP3 (io), 42 RC4/SDI/SDA (io), 43 RC5/SDO (io), 44 RC6/TX/CK (io), 45 Thermal Pad (power)

## PIC18F4539T-I/PT
designator U?
Enhanced FLASH Microcontroller with Single Phase Induction Motor Control Kernel, 24K FLASH, 44-Pin TQFP, Standard Volt Range, Industrial Temperature, Tape and Reel; Published: 11-Oct-2004; LatestRevisionDate: 13-Apr-2006; LatestRevisionNote: IPC-7351 Footprint Added.; DatasheetVersion: DS30485A_2002; PackageVersion: 2003; PackageReference: TQFP-44; Publisher: Altium Limited; PackageDescription: 44-Pin Thin Quad Flat Pack 0.8 mm Pitch, 1.0/0.1 mm Lead Form; Code_JEDEC: MS-026; ComponentLink1Description: Manufacturer Link; ComponentLink1URL: http://www.microchip.com; ComponentLink2Description: Datasheet; ComponentLink2URL: http://ww1.microchip.com/downloads/en/DeviceDoc/30485a.pdf; ComponentLink3Description: Packaging Specification; ComponentLink3URL: http://ww1.microchip.com/downloads/en/PackagingSpec/00049AD.pdf
footprint TQFP-44_N (Thin QFP, 44-Leads, Body 10x10mm, Pitch 0.8mm, IPC Medium Density)
footprint TQFP-44_L (Thin QFP, 44-Leads, Body 10x10mm, Pitch 0.8mm, IPC High Density)
footprint TQFP-44_M (Thin QFP, 44-Leads, Body 10x10mm, Pitch 0.8mm, IPC Low Density)
3D model PIC18F4539-TQFP-44 (44-Pin Thin Quad Flat Pack 0.8 mm Pitch, 1.0/0.1 mm Lead Form)
pins: 1 RC7/RX/DT (io), 2 RD4/PSP4 (io), 3 RD5/PSP5 (io), 4 RD6/PSP6 (io), 5 RD7/PSP7 (io), 6 VSS (power), 7 VDD (power), 8 RB0/INT0 (io), 9 RB1/INT1 (io), 10 RB2/INT2 (io), 11 RB3 (io), 12 NC, 13 NC, 14 RB4 (io), 15 RB5/PGM (io), 16 RB6/PGC (io), 17 RB7/PGD (io), 18 ~{MCLR}/VPP (in), 19 RA0/AN0 (io), 20 RA1/AN1 (io), 21 RA2/AN2/VREF- (io), 22 RA3/AN3/VREF+ (io), 23 RA4/T0CKI (io), 24 RA5/AN4/~{SS}/LVDIN (io), 25 RE0/AN5/~{RD} (io), 26 RE1/AN6/~{WR} (io), 27 RE2/AN7/~{CS} (io), 28 VDD (power), 29 VSS (power), 30 OSC1/CLKI (in), 31 OSC2/CLKO/RA6 (io), 32 RC0/T13CKI (io), 33 NC, 34 NC, 35 PWM2 (out), 36 PWM1 (out), 37 RC3/SCK/SCL (io), 38 RD0/PSP0 (io), 39 RD1/PSP1 (io), 40 RD2/PSP2 (io), 41 RD3/PSP3 (io), 42 RC4/SDI/SDA (io), 43 RC5/SDO (io), 44 RC6/TX/CK (io)

## PIC18F6520-E/PT
designator U?
High Performance, 32K Enhanced FLASH Microcontroller with A/D, 64-Pin TQFP, Standard Volt Range, Extended Temperature; Note: CCP2 is multiplexed with RC1 when CCP2MX is set.; Published: 11-Oct-2004; LatestRevisionDate: 13-Apr-2006; LatestRevisionNote: IPC-7351 Footprint Added.; DatasheetVersion: DS39609B_2004; PackageVersion: 2003; PackageReference: TQFP-64; Publisher: Altium Limited; PackageDescription: 64-Pin Thin Plastic Quad Flat Pack 0.5 mm Pitch, 1.0/0.1 mm Lead Form; Code_JEDEC: MS-026; ComponentLink1Description: Manufacturer Link; ComponentLink1URL: http://www.microchip.com; ComponentLink2Description: Datasheet; ComponentLink2URL: http://ww1.microchip.com/downloads/en/DeviceDoc/39609b.pdf; ComponentLink3Description: Packaging Specification; ComponentLink3URL: http://ww1.microchip.com/downloads/en/PackagingSpec/00049AD.pdf
footprint TQFP-64_N (Thin QFP, 64-Leads, Body 10x10mm, Pitch 0.5mm, IPC Medium Density)
footprint TQFP-64_L (Thin QFP, 64-Leads, Body 10x10mm, Pitch 0.5mm, IPC High Density)
footprint TQFP-64_M (Thin QFP, 64-Leads, Body 10x10mm, Pitch 0.5mm, IPC Low Density)
3D model PIC18F6520-TQFP-64 (64-Pin Thin Plastic Quad Flat Pack 0.5 mm Pitch, 1.0/0.1 mm Lead Form)
pins: 1 RE1/~{WR} (io), 2 RE0/~{RD} (io), 3 RG0/CCP3 (io), 4 RG1/TX2/CK2 (io), 5 RG2/RX2/DT2 (io), 6 RG3/CCP4 (io), 7 ~{MCLR}/VPP (in), 8 RG4/CCP5 (io), 9 VSS (power), 10 VDD (power), 11 RF7/~{SS} (io), 12 RF6/AN11 (io), 13 RF5/AN10/CVREF (io), 14 RF4/AN9 (io), 15 RF3/AN8 (io), 16 RF2/AN7/C1OUT (io), 17 RF1/AN6/C2OUT (io), 18 RF0/AN5 (io), 19 AVDD (power), 20 AVSS (power), 21 RA3/AN3/VREF+ (io), 22 RA2/AN2/VREF- (io), 23 RA1/AN1 (io), 24 RA0/AN0 (io), 25 VSS (power), 26 VDD (power), 27 RA5/AN4/LVDIN (io), 28 RA4/T0CKI (io), 29 RC1/T1OSI/CCP2 (io), 30 RC0/T1OSO/T13CKI (io), 31 RC6/TX1/CK1 (io), 32 RC7/RX1/DT1 (io), 33 RC2/CCP1 (io), 34 RC3/SCK/SCL (io), 35 RC4/SDI/SDA (io), 36 RC5/SDO (io), 37 RB7/KBI3/PGD (io), 38 VDD (power), 39 OSC1/CLKI (in), 40 OSC2/CLKO/RA6 (io), 41 VSS (power), 42 RB6/KBI2/PGC (io), 43 RB5/KBI1/PGM (io), 44 RB4/KBI0 (io), 45 RB3/INT3 (io), 46 RB2/INT2 (io), 47 RB1/INT1 (io), 48 RB0/INT0 (io), 49 RD7/PSP7 (io), 50 RD6/PSP6 (io), 51 RD5/PSP5 (io), 52 RD4/PSP4 (io), 53 RD3/PSP3 (io), 54 RD2/PSP2 (io), 55 RD1/PSP1 (io), 56 VSS (power), 57 VDD (power), 58 RD0/PSP0 (io), 59 RE7/CCP2 (io), 60 RE6 (io), 61 RE5 (io), 62 RE4 (io), 63 RE3 (io), 64 RE2/~{CS} (io)

## PIC18F6520-I/PT
designator U?
High Performance, 32K Enhanced FLASH Microcontroller with A/D, 64-Pin TQFP, Standard Volt Range, Industrial Temperature; Note: CCP2 is multiplexed with RC1 when CCP2MX is set.; Published: 11-Oct-2004; LatestRevisionDate: 13-Apr-2006; LatestRevisionNote: IPC-7351 Footprint Added.; DatasheetVersion: DS39609B_2004; PackageVersion: 2003; PackageReference: TQFP-64; Publisher: Altium Limited; PackageDescription: 64-Pin Thin Plastic Quad Flat Pack 0.5 mm Pitch, 1.0/0.1 mm Lead Form; Code_JEDEC: MS-026; ComponentLink1Description: Manufacturer Link; ComponentLink1URL: http://www.microchip.com; ComponentLink2Description: Datasheet; ComponentLink2URL: http://ww1.microchip.com/downloads/en/DeviceDoc/39609b.pdf; ComponentLink3Description: Packaging Specification; ComponentLink3URL: http://ww1.microchip.com/downloads/en/PackagingSpec/00049AD.pdf
footprint TQFP-64_N (Thin QFP, 64-Leads, Body 10x10mm, Pitch 0.5mm, IPC Medium Density)
footprint TQFP-64_L (Thin QFP, 64-Leads, Body 10x10mm, Pitch 0.5mm, IPC High Density)
footprint TQFP-64_M (Thin QFP, 64-Leads, Body 10x10mm, Pitch 0.5mm, IPC Low Density)
3D model PIC18F6520-TQFP-64 (64-Pin Thin Plastic Quad Flat Pack 0.5 mm Pitch, 1.0/0.1 mm Lead Form)
pins: 1 RE1/~{WR} (io), 2 RE0/~{RD} (io), 3 RG0/CCP3 (io), 4 RG1/TX2/CK2 (io), 5 RG2/RX2/DT2 (io), 6 RG3/CCP4 (io), 7 ~{MCLR}/VPP (in), 8 RG4/CCP5 (io), 9 VSS (power), 10 VDD (power), 11 RF7/~{SS} (io), 12 RF6/AN11 (io), 13 RF5/AN10/CVREF (io), 14 RF4/AN9 (io), 15 RF3/AN8 (io), 16 RF2/AN7/C1OUT (io), 17 RF1/AN6/C2OUT (io), 18 RF0/AN5 (io), 19 AVDD (power), 20 AVSS (power), 21 RA3/AN3/VREF+ (io), 22 RA2/AN2/VREF- (io), 23 RA1/AN1 (io), 24 RA0/AN0 (io), 25 VSS (power), 26 VDD (power), 27 RA5/AN4/LVDIN (io), 28 RA4/T0CKI (io), 29 RC1/T1OSI/CCP2 (io), 30 RC0/T1OSO/T13CKI (io), 31 RC6/TX1/CK1 (io), 32 RC7/RX1/DT1 (io), 33 RC2/CCP1 (io), 34 RC3/SCK/SCL (io), 35 RC4/SDI/SDA (io), 36 RC5/SDO (io), 37 RB7/KBI3/PGD (io), 38 VDD (power), 39 OSC1/CLKI (in), 40 OSC2/CLKO/RA6 (io), 41 VSS (power), 42 RB6/KBI2/PGC (io), 43 RB5/KBI1/PGM (io), 44 RB4/KBI0 (io), 45 RB3/INT3 (io), 46 RB2/INT2 (io), 47 RB1/INT1 (io), 48 RB0/INT0 (io), 49 RD7/PSP7 (io), 50 RD6/PSP6 (io), 51 RD5/PSP5 (io), 52 RD4/PSP4 (io), 53 RD3/PSP3 (io), 54 RD2/PSP2 (io), 55 RD1/PSP1 (io), 56 VSS (power), 57 VDD (power), 58 RD0/PSP0 (io), 59 RE7/CCP2 (io), 60 RE6 (io), 61 RE5 (io), 62 RE4 (io), 63 RE3 (io), 64 RE2/~{CS} (io)

## PIC18F6520T-I/PT
designator U?
High Performance, 32K Enhanced FLASH Microcontroller with A/D, 64-Pin TQFP, Standard Volt Range, Industrial Temperature, Tape and Reel; Note: CCP2 is multiplexed with RC1 when CCP2MX is set.; Published: 11-Oct-2004; LatestRevisionDate: 13-Apr-2006; LatestRevisionNote: IPC-7351 Footprint Added.; DatasheetVersion: DS39609B_2004; PackageVersion: 2003; PackageReference: TQFP-64; Publisher: Altium Limited; PackageDescription: 64-Pin Thin Plastic Quad Flat Pack 0.5 mm Pitch, 1.0/0.1 mm Lead Form; Code_JEDEC: MS-026; ComponentLink1Description: Manufacturer Link; ComponentLink1URL: http://www.microchip.com; ComponentLink2Description: Datasheet; ComponentLink2URL: http://ww1.microchip.com/downloads/en/DeviceDoc/39609b.pdf; ComponentLink3Description: Packaging Specification; ComponentLink3URL: http://ww1.microchip.com/downloads/en/PackagingSpec/00049AD.pdf
footprint TQFP-64_N (Thin QFP, 64-Leads, Body 10x10mm, Pitch 0.5mm, IPC Medium Density)
footprint TQFP-64_L (Thin QFP, 64-Leads, Body 10x10mm, Pitch 0.5mm, IPC High Density)
footprint TQFP-64_M (Thin QFP, 64-Leads, Body 10x10mm, Pitch 0.5mm, IPC Low Density)
3D model PIC18F6520-TQFP-64 (64-Pin Thin Plastic Quad Flat Pack 0.5 mm Pitch, 1.0/0.1 mm Lead Form)
pins: 1 RE1/~{WR} (io), 2 RE0/~{RD} (io), 3 RG0/CCP3 (io), 4 RG1/TX2/CK2 (io), 5 RG2/RX2/DT2 (io), 6 RG3/CCP4 (io), 7 ~{MCLR}/VPP (in), 8 RG4/CCP5 (io), 9 VSS (power), 10 VDD (power), 11 RF7/~{SS} (io), 12 RF6/AN11 (io), 13 RF5/AN10/CVREF (io), 14 RF4/AN9 (io), 15 RF3/AN8 (io), 16 RF2/AN7/C1OUT (io), 17 RF1/AN6/C2OUT (io), 18 RF0/AN5 (io), 19 AVDD (power), 20 AVSS (power), 21 RA3/AN3/VREF+ (io), 22 RA2/AN2/VREF- (io), 23 RA1/AN1 (io), 24 RA0/AN0 (io), 25 VSS (power), 26 VDD (power), 27 RA5/AN4/LVDIN (io), 28 RA4/T0CKI (io), 29 RC1/T1OSI/CCP2 (io), 30 RC0/T1OSO/T13CKI (io), 31 RC6/TX1/CK1 (io), 32 RC7/RX1/DT1 (io), 33 RC2/CCP1 (io), 34 RC3/SCK/SCL (io), 35 RC4/SDI/SDA (io), 36 RC5/SDO (io), 37 RB7/KBI3/PGD (io), 38 VDD (power), 39 OSC1/CLKI (in), 40 OSC2/CLKO/RA6 (io), 41 VSS (power), 42 RB6/KBI2/PGC (io), 43 RB5/KBI1/PGM (io), 44 RB4/KBI0 (io), 45 RB3/INT3 (io), 46 RB2/INT2 (io), 47 RB1/INT1 (io), 48 RB0/INT0 (io), 49 RD7/PSP7 (io), 50 RD6/PSP6 (io), 51 RD5/PSP5 (io), 52 RD4/PSP4 (io), 53 RD3/PSP3 (io), 54 RD2/PSP2 (io), 55 RD1/PSP1 (io), 56 VSS (power), 57 VDD (power), 58 RD0/PSP0 (io), 59 RE7/CCP2 (io), 60 RE6 (io), 61 RE5 (io), 62 RE4 (io), 63 RE3 (io), 64 RE2/~{CS} (io)

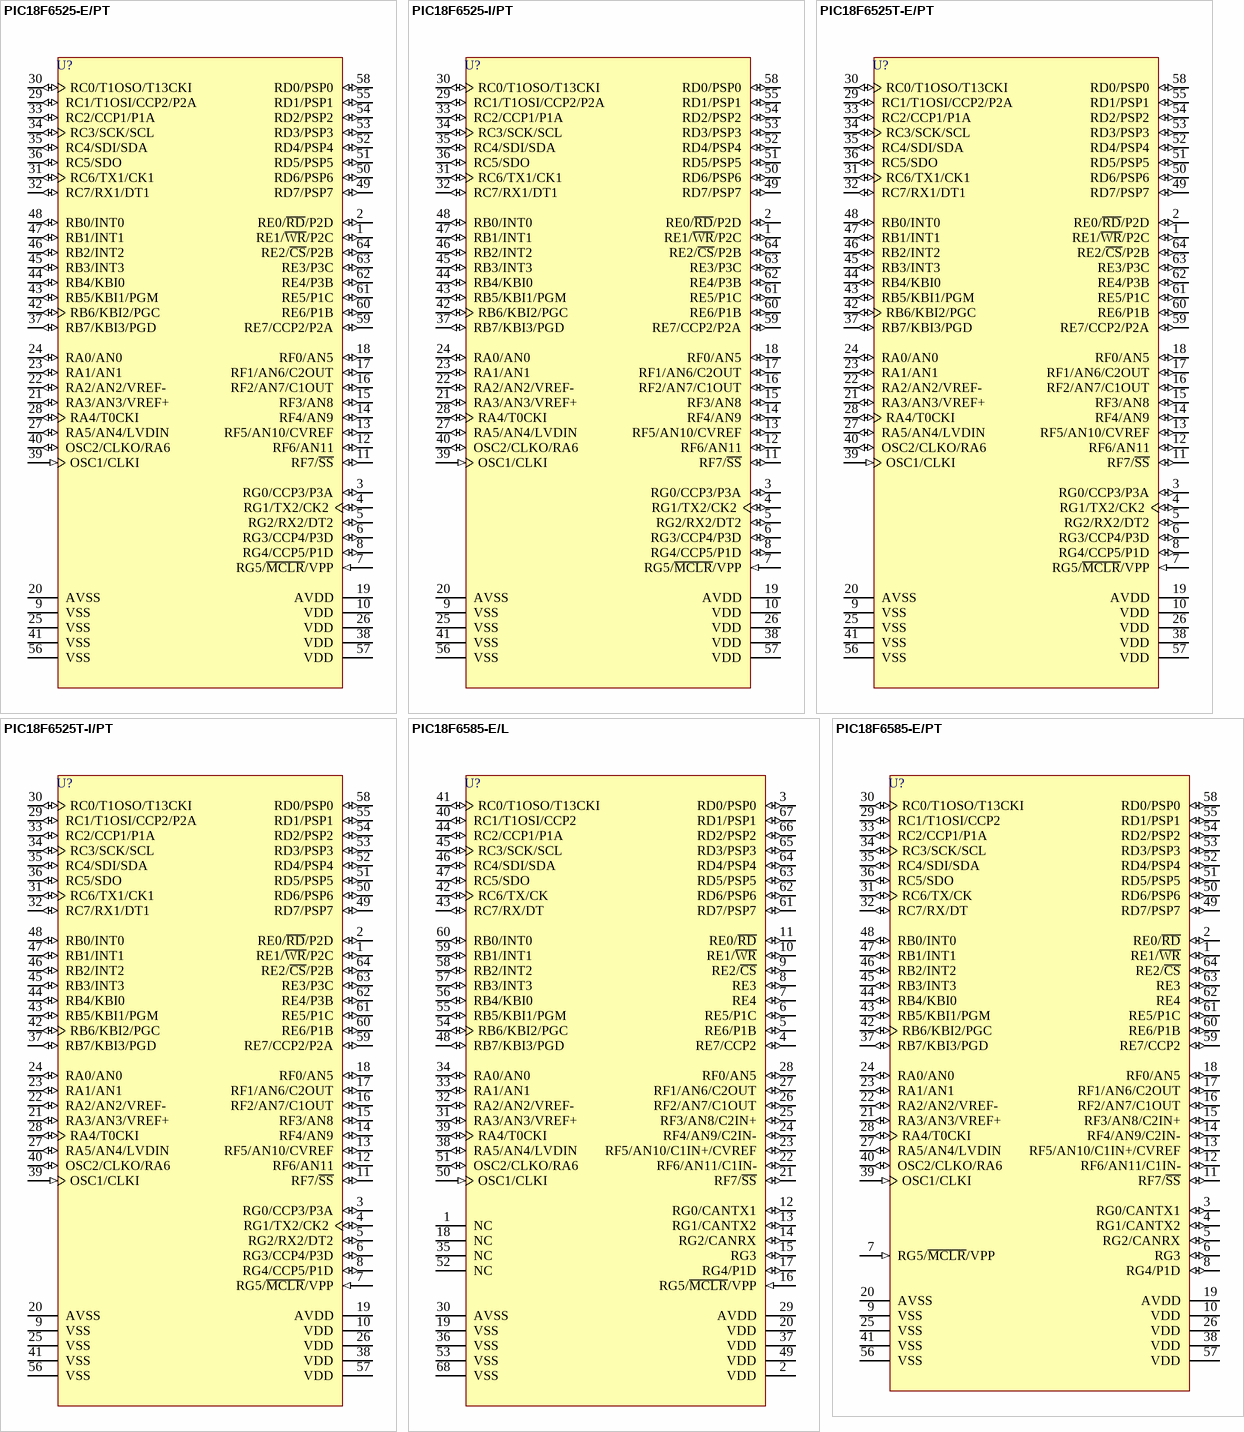
[diagram p21: symbols PIC18F6525-E/PT to PIC18F6585-E/PT]

## PIC18F6525-E/PT
designator U?
High Performance, 48Kbyte Enhanced FLASH Microcontroller with A/D, 64-Pin TQFP, Standard Volt Range, Extended Temperature; Note: CCP2/P2A are multiplexed with RC1 when CCP2MX is set, or RE7 when CCP2MX is not set.; Note: RG5 is multiplexed with M\C\L\R\, and is only available when the M\C\L\R\ Resets are disabled.; Published: 11-Oct-2004; LatestRevisionDate: 13-Apr-2006; LatestRevisionNote: IPC-7351 Footprint Added.; DatasheetVersion: DS39612A_2003; PackageVersion: 2003; PackageReference: TQFP-64; Publisher: Altium Limited; PackageDescription: 64-Pin Thin Plastic Quad Flat Pack 0.5 mm Pitch, 1.0/0.1 mm Lead Form; Code_JEDEC: MS-026; ComponentLink1Description: Manufacturer Link; ComponentLink1URL: http://www.microchip.com; ComponentLink2Description: Datasheet; ComponentLink2URL: http://ww1.microchip.com/downloads/en/DeviceDoc/39612a.pdf; ComponentLink3Description: Packaging Specification; ComponentLink3URL: http://ww1.microchip.com/downloads/en/PackagingSpec/00049AD.pdf
footprint TQFP-64_N (Thin QFP, 64-Leads, Body 10x10mm, Pitch 0.5mm, IPC Medium Density)
footprint TQFP-64_L (Thin QFP, 64-Leads, Body 10x10mm, Pitch 0.5mm, IPC High Density)
footprint TQFP-64_M (Thin QFP, 64-Leads, Body 10x10mm, Pitch 0.5mm, IPC Low Density)
3D model PIC18F6525-TQFP-64 (64-Pin Thin Plastic Quad Flat Pack 0.5 mm Pitch, 1.0/0.1 mm Lead Form)
pins: 1 RE1/~{WR}/P2C (io), 2 RE0/~{RD}/P2D (io), 3 RG0/CCP3/P3A (io), 4 RG1/TX2/CK2 (io), 5 RG2/RX2/DT2 (io), 6 RG3/CCP4/P3D (io), 7 RG5/~{MCLR}/VPP (in), 8 RG4/CCP5/P1D (io), 9 VSS (power), 10 VDD (power), 11 RF7/~{SS} (io), 12 RF6/AN11 (io), 13 RF5/AN10/CVREF (io), 14 RF4/AN9 (io), 15 RF3/AN8 (io), 16 RF2/AN7/C1OUT (io), 17 RF1/AN6/C2OUT (io), 18 RF0/AN5 (io), 19 AVDD (power), 20 AVSS (power), 21 RA3/AN3/VREF+ (io), 22 RA2/AN2/VREF- (io), 23 RA1/AN1 (io), 24 RA0/AN0 (io), 25 VSS (power), 26 VDD (power), 27 RA5/AN4/LVDIN (io), 28 RA4/T0CKI (io), 29 RC1/T1OSI/CCP2/P2A (io), 30 RC0/T1OSO/T13CKI (io), 31 RC6/TX1/CK1 (io), 32 RC7/RX1/DT1 (io), 33 RC2/CCP1/P1A (io), 34 RC3/SCK/SCL (io), 35 RC4/SDI/SDA (io), 36 RC5/SDO (io), 37 RB7/KBI3/PGD (io), 38 VDD (power), 39 OSC1/CLKI (in), 40 OSC2/CLKO/RA6 (io), 41 VSS (power), 42 RB6/KBI2/PGC (io), 43 RB5/KBI1/PGM (io), 44 RB4/KBI0 (io), 45 RB3/INT3 (io), 46 RB2/INT2 (io), 47 RB1/INT1 (io), 48 RB0/INT0 (io), 49 RD7/PSP7 (io), 50 RD6/PSP6 (io), 51 RD5/PSP5 (io), 52 RD4/PSP4 (io), 53 RD3/PSP3 (io), 54 RD2/PSP2 (io), 55 RD1/PSP1 (io), 56 VSS (power), 57 VDD (power), 58 RD0/PSP0 (io), 59 RE7/CCP2/P2A (io), 60 RE6/P1B (io), 61 RE5/P1C (io), 62 RE4/P3B (io), 63 RE3/P3C (io), 64 RE2/~{CS}/P2B (io)

## PIC18F6525-I/PT
designator U?
High Performance, 48Kbyte Enhanced FLASH Microcontroller with A/D, 64-Pin TQFP, Standard Volt Range, Industrial Temperature; Note: CCP2/P2A are multiplexed with RC1 when CCP2MX is set, or RE7 when CCP2MX is not set.; Note: RG5 is multiplexed with M\C\L\R\, and is only available when the M\C\L\R\ Resets are disabled.; Published: 11-Oct-2004; LatestRevisionDate: 13-Apr-2006; LatestRevisionNote: IPC-7351 Footprint Added.; DatasheetVersion: DS39612A_2003; PackageVersion: 2003; PackageReference: TQFP-64; Publisher: Altium Limited; PackageDescription: 64-Pin Thin Plastic Quad Flat Pack 0.5 mm Pitch, 1.0/0.1 mm Lead Form; Code_JEDEC: MS-026; ComponentLink1Description: Manufacturer Link; ComponentLink1URL: http://www.microchip.com; ComponentLink2Description: Datasheet; ComponentLink2URL: http://ww1.microchip.com/downloads/en/DeviceDoc/39612a.pdf; ComponentLink3Description: Packaging Specification; ComponentLink3URL: http://ww1.microchip.com/downloads/en/PackagingSpec/00049AD.pdf
footprint TQFP-64_N (Thin QFP, 64-Leads, Body 10x10mm, Pitch 0.5mm, IPC Medium Density)
footprint TQFP-64_L (Thin QFP, 64-Leads, Body 10x10mm, Pitch 0.5mm, IPC High Density)
footprint TQFP-64_M (Thin QFP, 64-Leads, Body 10x10mm, Pitch 0.5mm, IPC Low Density)
3D model PIC18F6525-TQFP-64 (64-Pin Thin Plastic Quad Flat Pack 0.5 mm Pitch, 1.0/0.1 mm Lead Form)
pins: 1 RE1/~{WR}/P2C (io), 2 RE0/~{RD}/P2D (io), 3 RG0/CCP3/P3A (io), 4 RG1/TX2/CK2 (io), 5 RG2/RX2/DT2 (io), 6 RG3/CCP4/P3D (io), 7 RG5/~{MCLR}/VPP (in), 8 RG4/CCP5/P1D (io), 9 VSS (power), 10 VDD (power), 11 RF7/~{SS} (io), 12 RF6/AN11 (io), 13 RF5/AN10/CVREF (io), 14 RF4/AN9 (io), 15 RF3/AN8 (io), 16 RF2/AN7/C1OUT (io), 17 RF1/AN6/C2OUT (io), 18 RF0/AN5 (io), 19 AVDD (power), 20 AVSS (power), 21 RA3/AN3/VREF+ (io), 22 RA2/AN2/VREF- (io), 23 RA1/AN1 (io), 24 RA0/AN0 (io), 25 VSS (power), 26 VDD (power), 27 RA5/AN4/LVDIN (io), 28 RA4/T0CKI (io), 29 RC1/T1OSI/CCP2/P2A (io), 30 RC0/T1OSO/T13CKI (io), 31 RC6/TX1/CK1 (io), 32 RC7/RX1/DT1 (io), 33 RC2/CCP1/P1A (io), 34 RC3/SCK/SCL (io), 35 RC4/SDI/SDA (io), 36 RC5/SDO (io), 37 RB7/KBI3/PGD (io), 38 VDD (power), 39 OSC1/CLKI (in), 40 OSC2/CLKO/RA6 (io), 41 VSS (power), 42 RB6/KBI2/PGC (io), 43 RB5/KBI1/PGM (io), 44 RB4/KBI0 (io), 45 RB3/INT3 (io), 46 RB2/INT2 (io), 47 RB1/INT1 (io), 48 RB0/INT0 (io), 49 RD7/PSP7 (io), 50 RD6/PSP6 (io), 51 RD5/PSP5 (io), 52 RD4/PSP4 (io), 53 RD3/PSP3 (io), 54 RD2/PSP2 (io), 55 RD1/PSP1 (io), 56 VSS (power), 57 VDD (power), 58 RD0/PSP0 (io), 59 RE7/CCP2/P2A (io), 60 RE6/P1B (io), 61 RE5/P1C (io), 62 RE4/P3B (io), 63 RE3/P3C (io), 64 RE2/~{CS}/P2B (io)

## PIC18F6525T-E/PT
designator U?
High Performance, 48Kbyte Enhanced FLASH Microcontroller with A/D, 64-Pin TQFP, Standard Volt Range, Extended Temperature, Tape and Reel; Note: CCP2/P2A are multiplexed with RC1 when CCP2MX is set, or RE7 when CCP2MX is not set.; Note: RG5 is multiplexed with M\C\L\R\, and is only available when the M\C\L\R\ Resets are disabled.; Published: 11-Oct-2004; LatestRevisionDate: 13-Apr-2006; LatestRevisionNote: IPC-7351 Footprint Added.; DatasheetVersion: DS39612A_2003; PackageVersion: 2003; PackageReference: TQFP-64; Publisher: Altium Limited; PackageDescription: 64-Pin Thin Plastic Quad Flat Pack 0.5 mm Pitch, 1.0/0.1 mm Lead Form; Code_JEDEC: MS-026; ComponentLink1Description: Manufacturer Link; ComponentLink1URL: http://www.microchip.com; ComponentLink2Description: Datasheet; ComponentLink2URL: http://ww1.microchip.com/downloads/en/DeviceDoc/39612a.pdf; ComponentLink3Description: Packaging Specification; ComponentLink3URL: http://ww1.microchip.com/downloads/en/PackagingSpec/00049AD.pdf
footprint TQFP-64_N (Thin QFP, 64-Leads, Body 10x10mm, Pitch 0.5mm, IPC Medium Density)
footprint TQFP-64_L (Thin QFP, 64-Leads, Body 10x10mm, Pitch 0.5mm, IPC High Density)
footprint TQFP-64_M (Thin QFP, 64-Leads, Body 10x10mm, Pitch 0.5mm, IPC Low Density)
3D model PIC18F6525-TQFP-64 (64-Pin Thin Plastic Quad Flat Pack 0.5 mm Pitch, 1.0/0.1 mm Lead Form)
pins: 1 RE1/~{WR}/P2C (io), 2 RE0/~{RD}/P2D (io), 3 RG0/CCP3/P3A (io), 4 RG1/TX2/CK2 (io), 5 RG2/RX2/DT2 (io), 6 RG3/CCP4/P3D (io), 7 RG5/~{MCLR}/VPP (in), 8 RG4/CCP5/P1D (io), 9 VSS (power), 10 VDD (power), 11 RF7/~{SS} (io), 12 RF6/AN11 (io), 13 RF5/AN10/CVREF (io), 14 RF4/AN9 (io), 15 RF3/AN8 (io), 16 RF2/AN7/C1OUT (io), 17 RF1/AN6/C2OUT (io), 18 RF0/AN5 (io), 19 AVDD (power), 20 AVSS (power), 21 RA3/AN3/VREF+ (io), 22 RA2/AN2/VREF- (io), 23 RA1/AN1 (io), 24 RA0/AN0 (io), 25 VSS (power), 26 VDD (power), 27 RA5/AN4/LVDIN (io), 28 RA4/T0CKI (io), 29 RC1/T1OSI/CCP2/P2A (io), 30 RC0/T1OSO/T13CKI (io), 31 RC6/TX1/CK1 (io), 32 RC7/RX1/DT1 (io), 33 RC2/CCP1/P1A (io), 34 RC3/SCK/SCL (io), 35 RC4/SDI/SDA (io), 36 RC5/SDO (io), 37 RB7/KBI3/PGD (io), 38 VDD (power), 39 OSC1/CLKI (in), 40 OSC2/CLKO/RA6 (io), 41 VSS (power), 42 RB6/KBI2/PGC (io), 43 RB5/KBI1/PGM (io), 44 RB4/KBI0 (io), 45 RB3/INT3 (io), 46 RB2/INT2 (io), 47 RB1/INT1 (io), 48 RB0/INT0 (io), 49 RD7/PSP7 (io), 50 RD6/PSP6 (io), 51 RD5/PSP5 (io), 52 RD4/PSP4 (io), 53 RD3/PSP3 (io), 54 RD2/PSP2 (io), 55 RD1/PSP1 (io), 56 VSS (power), 57 VDD (power), 58 RD0/PSP0 (io), 59 RE7/CCP2/P2A (io), 60 RE6/P1B (io), 61 RE5/P1C (io), 62 RE4/P3B (io), 63 RE3/P3C (io), 64 RE2/~{CS}/P2B (io)